# Altium footprint library TDII_Lib.PcbLib: 20 footprints (part 1 of 2)
Each footprint in its own frame and in the unit in brackets; x right, y up, seen from the top. Pads: shape width x height; smd on the part's side, far side on the other; paste and mask are expansions set on the pad; w line width, h text height; cw(c..) or ccw(c..) is an arc to the next point about the centre after c.
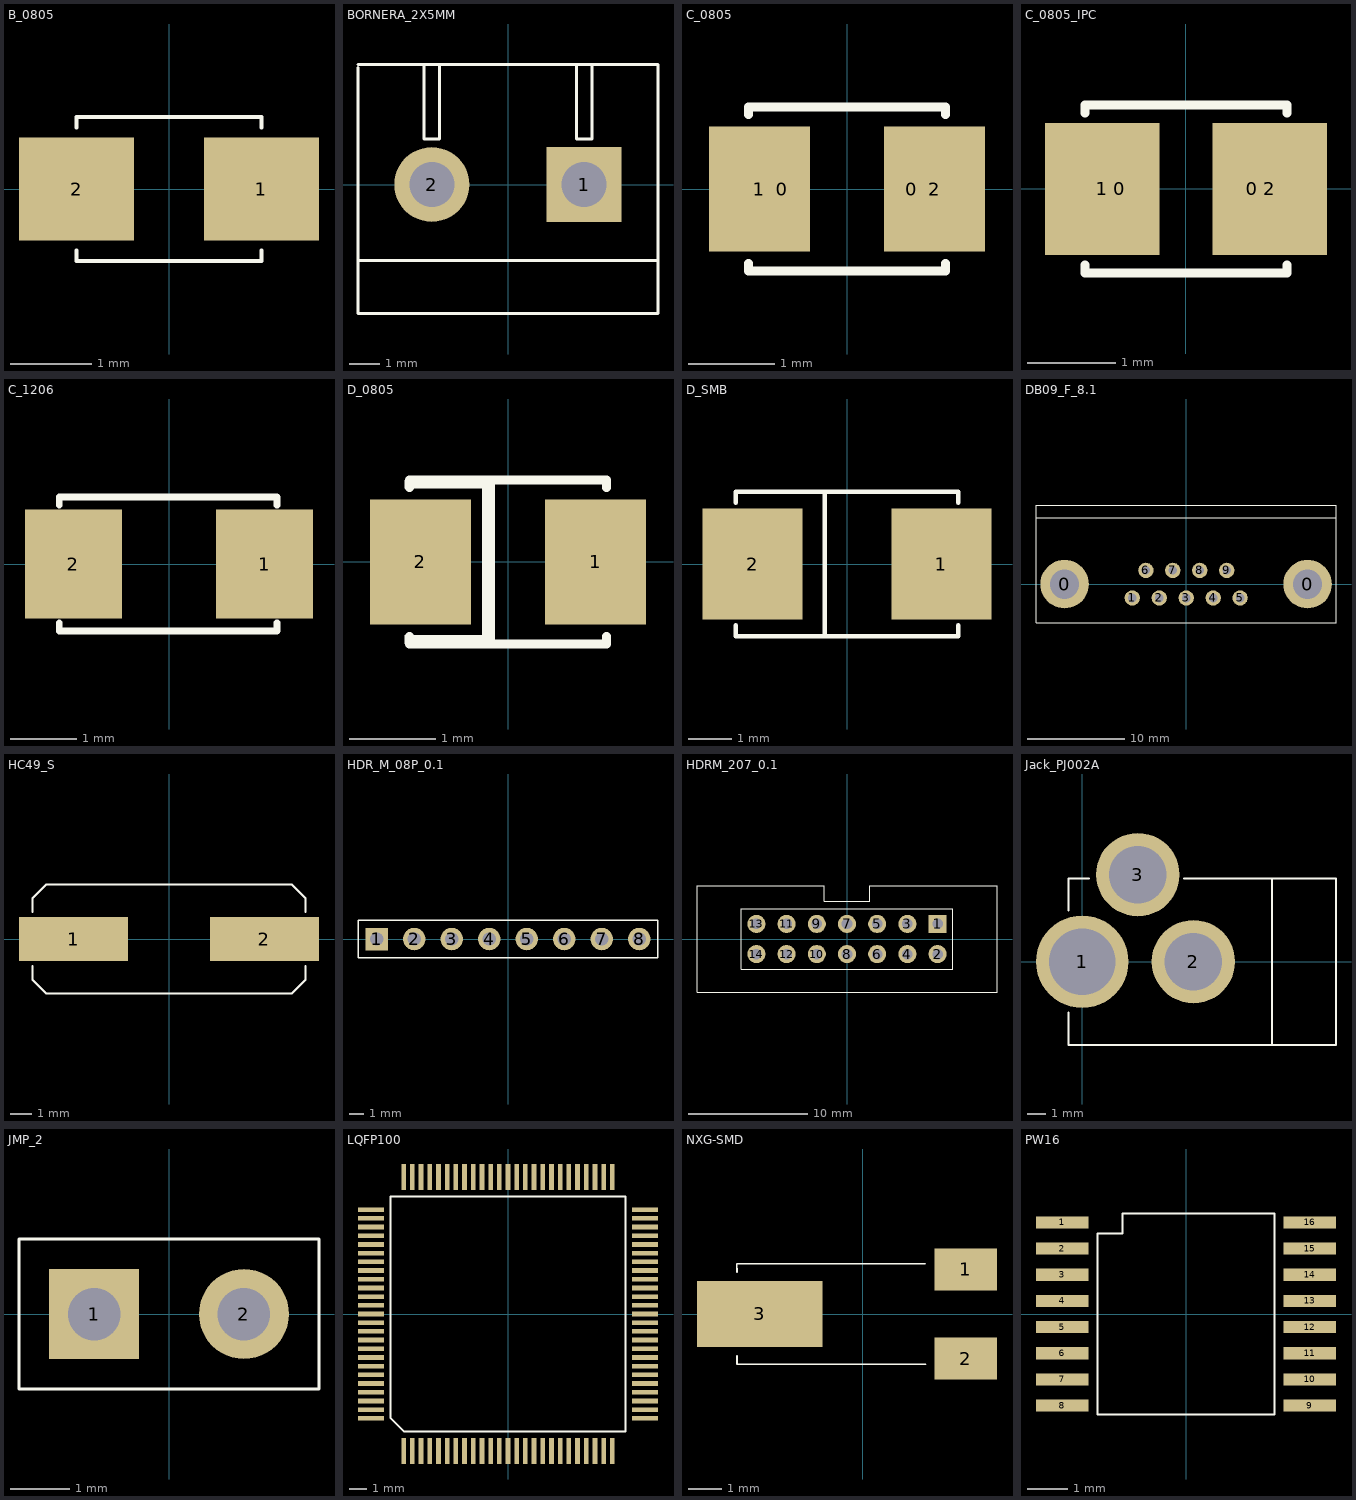
[diagram p0: the footprints below, top view; thin cyan lines are the x and y axes]

## B_0805 [mil]
pads (2):
  rect 56x50 smd: 1(45,0) 2(-45,0)
Top Overlay:
  lines w2: -45,-30 -45,-35 45,-35 45,-30 ; -45,30 -45,35 45,35 45,30

## BORNERA_2X5MM [mm]
pads (2):
  rect 2.5x2.5 hole 1.5: 1(2.54,0)
  round 2.5 hole 1.5: 2(-2.54,0)
Top Overlay:
  lines w0.102: -5,-2.413 -5,-2.54 5,-2.54 ; -5,3.9 -5,-4.3 5,-4.3 5,4 -5,4 ; -2.794,4 -2.794,1.524 -2.286,1.524 -2.286,4 ; 2.286,4 2.286,1.524 2.794,1.524 2.794,4

## C_0805 [mm]
height 0.6
pads (4):
  rect 0.5x1.25 on Mech3: 0(-0.75,0) 0(0.75,0)
  rect 1.175x1.45 smd: 1(-1.016,0) 2(1.016,0)
Top Overlay:
  lines w0.102: -1.143,-0.864 -1.143,-0.953 1.143,-0.953 1.143,-0.864 ; -1.143,0.864 -1.143,0.953 1.143,0.953 1.143,0.864

## C_0805_IPC [mm]
pads (4):
  rect 0.5x1.25 on Mech3: 0(-0.75,0) 0(0.75,0)
  rect 1.3x1.5 smd: 1(-0.95,0) 2(0.95,0)
Top Overlay:
  lines w0.102: -1.143,-0.864 -1.143,-0.953 1.143,-0.953 1.143,-0.864 ; -1.143,0.864 -1.143,0.953 1.143,0.953 1.143,0.864

## C_1206 [mm]
pads (2):
  rect 1.475x1.65 smd: 1(1.45,0) 2(-1.45,0)
Top Overlay:
  lines w0.102: -1.664,-0.889 -1.664,-1.016 1.638,-1.016 1.638,-0.889 ; -1.664,0.889 -1.664,1.016 1.638,1.016 1.638,0.889

## D_0805 [mm]
pads (2):
  rect 1.175x1.45 smd: 1(1.016,0) 2(-1.016,0)
Top Overlay:
  rectangle: -1.2,0.85 -0.3,0.95
  rectangle: -1.2,-0.95 -0.3,-0.85
  rectangle: -0.3,-1 -0.15,0.95
  lines w0.102: -1.143,-0.864 -1.143,-0.953 1.143,-0.953 1.143,-0.864 ; -1.143,0.864 -1.143,0.953 1.143,0.953 1.143,0.864

## D_SMB [mil]
pads (2):
  rect 90x100 smd: 1(85,0) 2(-85,0)
Top Overlay:
  lines w4: -100,-55 -100,-65 100,-65 100,-55 ; -100,55 -100,65 100,65 100,55 ; -20,-65 -20,65

## DB09_F_8.1 [mil]
pads (11):
  round 196.67 hole 118.33: 0(-492.08,0) 0(492.08,0)
  round 62 hole 35: 1(-217.92,-55.83) 2(-108.75,-55.83) 3(0.42,-55.83) 4(109.58,-55.83) 5(218.75,-55.83) 6(-162.92,55.83) 7(-53.75,55.83) 8(55.42,55.83) 9(164.58,55.83)
Top Overlay:
  lines w4: -607.92,269.17 607.08,269.17 ; -607.92,-155.83 607.08,-155.83 607.08,319.17 -607.92,319.17 -607.92,-155.83

## HC49_S [mil]
pads (2):
  rect 200x80 smd: 1(-175,0) 2(175,0)
Top Overlay:
  lines w4: -250,-50 -250,-75 -225,-100 225,-100 250,-75 250,-50 ; -250,50 -250,75 -225,100 225,100 250,75 250,50

## HDR_M_08P_0.1 [mil]
pads (8):
  rect 60x60 hole 35: 1(-350,0)
  round 60 hole 35: 2(-250,0) 3(-150,0) 4(-50,0) 5(50,0) 6(150,0) 7(250,0) 8(350,0)
Top Overlay:
  lines w4: -400,-50 400,-50 400,50 -400,50 -400,-50

## HDRM_207_0.1 [mil]
pads (14):
  rect 60x60 hole 35: 1(300,50)
  round 60 hole 35: 2(300,-50) 3(200,50) 4(200,-50) 5(100,50) 6(100,-50) 7(0,50) 8(0,-50) 9(-100,50) 10(-100,-50) 11(-200,50) 12(-200,-50) 13(-300,50) 14(-300,-50)
Top Overlay:
  lines w4: -496.85,-177.17 496.85,-177.17 496.85,177.17 75,177.16 75,125 -75,125 -75,177.16 -496.85,177.17 -496.85,-177.17 ; -350,-100 -350,100 350,100 350,-100 -350,-100

## Jack_PJ002A [mm]
height 8.509
pads (3):
  round 5 hole 3.6: 1(0,0)
  round 4.5 hole 3.1: 2(6,0) 3(3,4.7)
Top Overlay:
  lines w0.102: -0.75,-2.75 -0.75,-4.5 13.7,-4.5 13.7,4.5 5.5,4.5 ; -0.75,2.75 -0.75,4.5 0.375,4.5 ; 10.25,-4.5 10.25,4.5

## JMP_2 [mil]
pads (2):
  rect 60x60 hole 35 paste+0: 1(-50,0)
  round 60 hole 35 paste+0: 2(50,0)
Top Overlay:
  lines w2: -100,-50 -100,50 100,50 100,-50 -100,-50

## LQFP100 [mm]
pads (100):
  rect 0.27x1.5 smd: 1(-6,-7.875) 2(-5.5,-7.875) 3(-5,-7.875) 4(-4.5,-7.875) 5(-4,-7.875) 6(-3.5,-7.875) 7(-3,-7.875) 8(-2.5,-7.875) 9(-2,-7.875) 10(-1.5,-7.875) 11(-1,-7.875) 12(-0.5,-7.875) 13(0,-7.875) 14(0.5,-7.875) 15(1,-7.875) 16(1.5,-7.875) 17(2,-7.875) 18(2.5,-7.875) 19(3,-7.875) 20(3.5,-7.875) 21(4,-7.875) 22(4.5,-7.875) 23(5,-7.875) 24(5.5,-7.875) 25(6,-7.875) 51(6,7.875) 52(5.5,7.875) 53(5,7.875) 54(4.5,7.875) 55(4,7.875) 56(3.5,7.875) 57(3,7.875) 58(2.5,7.875) 59(2,7.875) 60(1.5,7.875) 61(1,7.875) 62(0.5,7.875) 63(0,7.875) 64(-0.5,7.875) 65(-1,7.875) 66(-1.5,7.875) 67(-2,7.875) 68(-2.5,7.875) 69(-3,7.875) 70(-3.5,7.875) 71(-4,7.875) 72(-4.5,7.875) 73(-5,7.875) 74(-5.5,7.875) 75(-6,7.875)
  rect 1.5x0.27 smd: 26(7.875,-6) 27(7.875,-5.5) 28(7.875,-5) 29(7.875,-4.5) 30(7.875,-4) 31(7.875,-3.5) 32(7.875,-3) 33(7.875,-2.5) 34(7.875,-2) 35(7.875,-1.5) 36(7.875,-1) 37(7.875,-0.5) 38(7.875,0) 39(7.875,0.5) 40(7.875,1) 41(7.875,1.5) 42(7.875,2) 43(7.875,2.5) 44(7.875,3) 45(7.875,3.5) 46(7.875,4) 47(7.875,4.5) 48(7.875,5) 49(7.875,5.5) 50(7.875,6) 76(-7.875,6) 77(-7.875,5.5) 78(-7.875,5) 79(-7.875,4.5) 80(-7.875,4) 81(-7.875,3.5) 82(-7.875,3) 83(-7.875,2.5) 84(-7.875,2) 85(-7.875,1.5) 86(-7.875,1) 87(-7.875,0.5) 88(-7.875,0) 89(-7.875,-0.5) 90(-7.875,-1) 91(-7.875,-1.5) 92(-7.875,-2) 93(-7.875,-2.5) 94(-7.875,-3) 95(-7.875,-3.5) 96(-7.875,-4) 97(-7.875,-4.5) 98(-7.875,-5) 99(-7.875,-5.5) 100(-7.875,-6)
Top Overlay:
  lines w0.102: -6.75,-6 -6.75,0 -6.75,6.75 6.75,6.75 6.75,-6.75 -6,-6.75 -6.75,-6

## NXG-SMD [mm]
pads (3):
  rect 1.9x1.27 smd: 1(3.125,1.35) 2(3.125,-1.35)
  rect 3.8x2 smd: 3(-3.125,0)
Top Overlay:
  lines w0.051: -3.81,-1.27 -3.81,-1.524 1.905,-1.524 ; -3.81,1.27 -3.815,1.524 1.9,1.524

## PW16 [mm]
pads (16):
  rect 1.3x0.3 smd: 1(-3.075,2.275) 2(-3.075,1.625) 3(-3.075,0.975) 4(-3.075,0.325) 5(-3.075,-0.325) 6(-3.075,-0.975) 7(-3.075,-1.625) 8(-3.075,-2.275) 9(3.075,-2.275) 10(3.075,-1.625) 11(3.075,-0.975) 12(3.075,-0.325) 13(3.075,0.325) 14(3.075,0.975) 15(3.075,1.625) 16(3.075,2.275)
Top Overlay:
  lines w0.051: -2.2,-2.5 2.2,-2.5 2.2,2.5 -1.575,2.5 -1.575,2 -2.2,2 -2.2,-2.5